# Altium footprint library M5_Conn.PcbLib: 1 footprints
Each footprint in its own frame and in the unit in brackets; x right, y up, seen from the top. Pads: shape width x height; smd on the part's side, far side on the other; paste and mask are expansions set on the pad; w line width, h text height; cw(c..) or ccw(c..) is an arc to the next point about the centre after c.
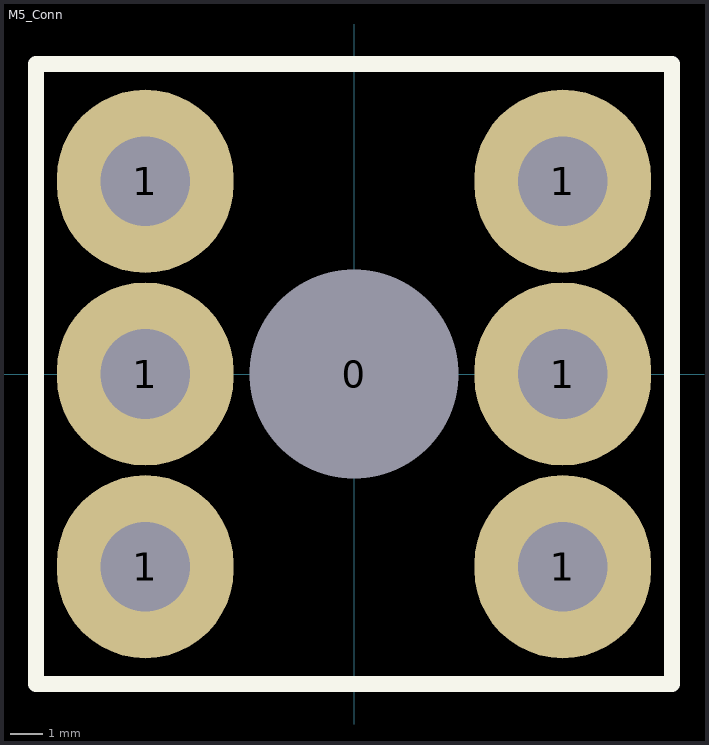
[diagram p0: the footprint, top view; thin cyan lines are the x and y axes]

## M5_Conn [mm]
pads (7):
  round 1.524 hole 6.5: 0(0,0)
  oval 5.5x5.7 hole 2.8: 1(-6.5,-6) 1(-6.5,0) 1(-6.5,6) 1(6.5,-6) 1(6.5,0) 1(6.5,6)
Top Overlay:
  lines w0.5: -9.906,-9.652 9.906,-9.652 9.906,9.652 -9.906,9.652 -9.906,-9.652
3D body "Терминал 100А м5.STEP": height 5.5, standoff -2, extent -7.25,-7.1 7.25,7.1